# Altium integrated library Altium Database Library V2.IntLib: 722 symbols (part 21 of 35)
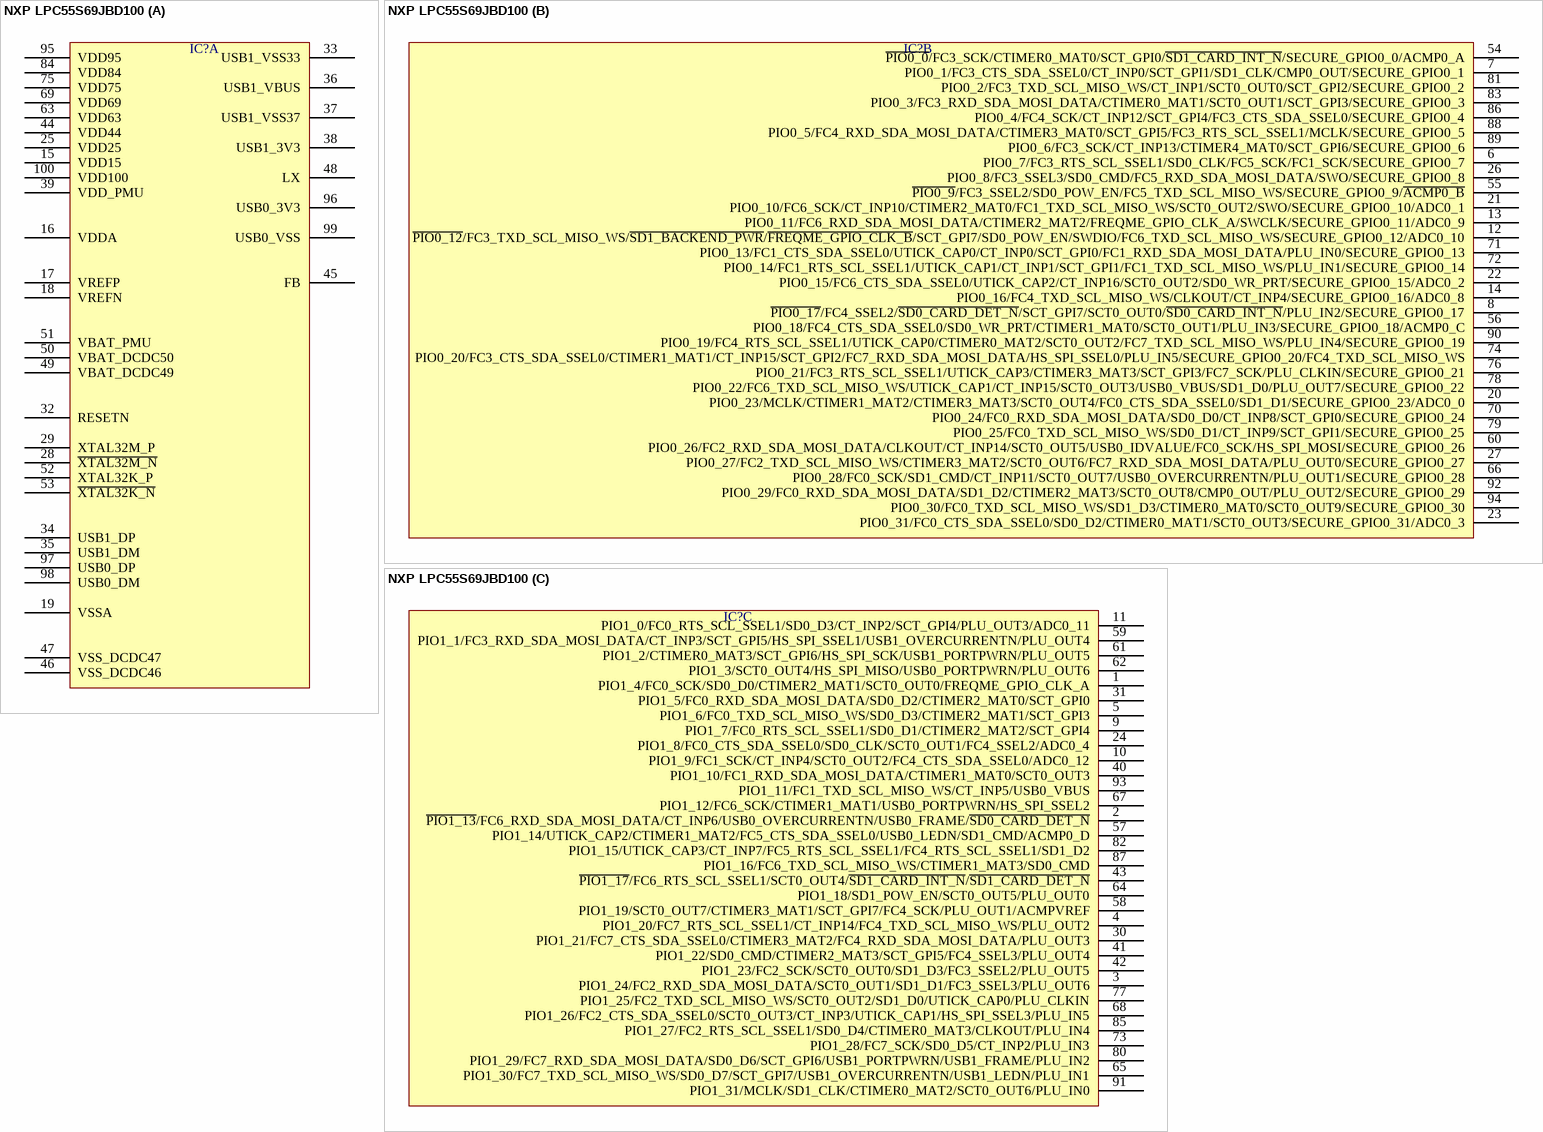
[diagram p735: symbol NXP LPC55S69JBD100]

## NXP LPC55S69JBD100
designator IC?  (value not drawn)
part A pins: 15 VDD15, 16 VDDA, 17 VREFP, 18 VREFN, 19 VSSA, 25 VDD25, 28 ~{XTAL32M_N}, 29 XTAL32M_P, 32 RESETN, 33 USB1_VSS33, 34 USB1_DP, 35 USB1_DM, 36 USB1_VBUS, 37 USB1_VSS37, 38 USB1_3V3, 39 VDD_PMU, 44 VDD44, 45 FB, 46 VSS_DCDC46, 47 VSS_DCDC47, 48 LX, 49 VBAT_DCDC49, 50 VBAT_DCDC50, 51 VBAT_PMU, 52 XTAL32K_P, 53 ~{XTAL32K_N}, 63 VDD63, 69 VDD69, 75 VDD75, 84 VDD84, 95 VDD95, 96 USB0_3V3, 97 USB0_DP, 98 USB0_DM, 99 USB0_VSS, 100 VDD100
part B pins: 6 PIO0_7/FC3_RTS_SCL_SSEL1/SD0_CLK/FC5_SCK/FC1_SCK/SECURE_GPIO0_7, 7 PIO0_1/FC3_CTS_SDA_SSEL0/CT_INP0/SCT_GPI1/SD1_CLK/CMP0_OUT/SECURE_GPIO0_1, 8 ~{PIO0_17}/FC4_SSEL2/~{SD0_CARD_DET_N}/SCT_GPI7/SCT0_OUT0/~{SD0_CARD_INT_N}/PLU_IN2/SECURE_GPIO0_17, 12 ~{PIO0_12}/FC3_TXD_SCL_MISO_WS/~{SD1_BACKEND_PWR}/~{FREQME_GPIO_CLK_B}/SCT_GPI7/SD0_POW_EN/SWDIO/FC6_TXD_SCL_MISO_WS/SECURE_GPIO0_12/ADC0_10, 13 PIO0_11/FC6_RXD_SDA_MOSI_DATA/CTIMER2_MAT2/FREQME_GPIO_CLK_A/SWCLK/SECURE_GPIO0_11/ADC0_9, 14 PIO0_16/FC4_TXD_SCL_MISO_WS/CLKOUT/CT_INP4/SECURE_GPIO0_16/ADC0_8, 20 PIO0_23/MCLK/CTIMER1_MAT2/CTIMER3_MAT3/SCT0_OUT4/FC0_CTS_SDA_SSEL0/SD1_D1/SECURE_GPIO0_23/ADC0_0, 21 PIO0_10/FC6_SCK/CT_INP10/CTIMER2_MAT0/FC1_TXD_SCL_MISO_WS/SCT0_OUT2/SWO/SECURE_GPIO0_10/ADC0_1, 22 PIO0_15/FC6_CTS_SDA_SSEL0/UTICK_CAP2/CT_INP16/SCT0_OUT2/SD0_WR_PRT/SECURE_GPIO0_15/ADC0_2, 23 PIO0_31/FC0_CTS_SDA_SSEL0/SD0_D2/CTIMER0_MAT1/SCT0_OUT3/SECURE_GPIO0_31/ADC0_3, 26 PIO0_8/FC3_SSEL3/SD0_CMD/FC5_RXD_SDA_MOSI_DATA/SWO/SECURE_GPIO0_8, 27 PIO0_27/FC2_TXD_SCL_MISO_WS/CTIMER3_MAT2/SCT0_OUT6/FC7_RXD_SDA_MOSI_DATA/PLU_OUT0/SECURE_GPIO0_27, 54 ~{PIO0_0}/FC3_SCK/CTIMER0_MAT0/SCT_GPI0/~{SD1_CARD_INT_N}/SECURE_GPIO0_0/ACMP0_A, 55 ~{PIO0_9}/FC3_SSEL2/SD0_POW_EN/FC5_TXD_SCL_MISO_WS/SECURE_GPIO0_9/~{ACMP0_B}, 56 PIO0_18/FC4_CTS_SDA_SSEL0/SD0_WR_PRT/CTIMER1_MAT0/SCT0_OUT1/PLU_IN3/SECURE_GPIO0_18/ACMP0_C, 60 PIO0_26/FC2_RXD_SDA_MOSI_DATA/CLKOUT/CT_INP14/SCT0_OUT5/USB0_IDVALUE/FC0_SCK/HS_SPI_MOSI/SECURE_GPIO0_26, 66 PIO0_28/FC0_SCK/SD1_CMD/CT_INP11/SCT0_OUT7/USB0_OVERCURRENTN/PLU_OUT1/SECURE_GPIO0_28, 70 PIO0_24/FC0_RXD_SDA_MOSI_DATA/SD0_D0/CT_INP8/SCT_GPI0/SECURE_GPIO0_24, 71 PIO0_13/FC1_CTS_SDA_SSEL0/UTICK_CAP0/CT_INP0/SCT_GPI0/FC1_RXD_SDA_MOSI_DATA/PLU_IN0/SECURE_GPIO0_13, 72 PIO0_14/FC1_RTS_SCL_SSEL1/UTICK_CAP1/CT_INP1/SCT_GPI1/FC1_TXD_SCL_MISO_WS/PLU_IN1/SECURE_GPIO0_14, 74 PIO0_20/FC3_CTS_SDA_SSEL0/CTIMER1_MAT1/CT_INP15/SCT_GPI2/FC7_RXD_SDA_MOSI_DATA/HS_SPI_SSEL0/PLU_IN5/SECURE_GPIO0_20/FC4_TXD_SCL_MISO_WS, 76 PIO0_21/FC3_RTS_SCL_SSEL1/UTICK_CAP3/CTIMER3_MAT3/SCT_GPI3/FC7_SCK/PLU_CLKIN/SECURE_GPIO0_21, 78 PIO0_22/FC6_TXD_SCL_MISO_WS/UTICK_CAP1/CT_INP15/SCT0_OUT3/USB0_VBUS/SD1_D0/PLU_OUT7/SECURE_GPIO0_22, 79 PIO0_25/FC0_TXD_SCL_MISO_WS/SD0_D1/CT_INP9/SCT_GPI1/SECURE_GPIO0_25, 81 PIO0_2/FC3_TXD_SCL_MISO_WS/CT_INP1/SCT0_OUT0/SCT_GPI2/SECURE_GPIO0_2, 83 PIO0_3/FC3_RXD_SDA_MOSI_DATA/CTIMER0_MAT1/SCT0_OUT1/SCT_GPI3/SECURE_GPIO0_3, 86 PIO0_4/FC4_SCK/CT_INP12/SCT_GPI4/FC3_CTS_SDA_SSEL0/SECURE_GPIO0_4, 88 PIO0_5/FC4_RXD_SDA_MOSI_DATA/CTIMER3_MAT0/SCT_GPI5/FC3_RTS_SCL_SSEL1/MCLK/SECURE_GPIO0_5, 89 PIO0_6/FC3_SCK/CT_INP13/CTIMER4_MAT0/SCT_GPI6/SECURE_GPIO0_6, 90 PIO0_19/FC4_RTS_SCL_SSEL1/UTICK_CAP0/CTIMER0_MAT2/SCT0_OUT2/FC7_TXD_SCL_MISO_WS/PLU_IN4/SECURE_GPIO0_19, 92 PIO0_29/FC0_RXD_SDA_MOSI_DATA/SD1_D2/CTIMER2_MAT3/SCT0_OUT8/CMP0_OUT/PLU_OUT2/SECURE_GPIO0_29, 94 PIO0_30/FC0_TXD_SCL_MISO_WS/SD1_D3/CTIMER0_MAT0/SCT0_OUT9/SECURE_GPIO0_30
part C pins: 1 PIO1_4/FC0_SCK/SD0_D0/CTIMER2_MAT1/SCT0_OUT0/FREQME_GPIO_CLK_A, 2 ~{PIO1_13}/FC6_RXD_SDA_MOSI_DATA/CT_INP6/USB0_OVERCURRENTN/USB0_FRAME/~{SD0_CARD_DET_N}, 3 PIO1_24/FC2_RXD_SDA_MOSI_DATA/SCT0_OUT1/SD1_D1/FC3_SSEL3/PLU_OUT6, 4 PIO1_20/FC7_RTS_SCL_SSEL1/CT_INP14/FC4_TXD_SCL_MISO_WS/PLU_OUT2, 5 PIO1_6/FC0_TXD_SCL_MISO_WS/SD0_D3/CTIMER2_MAT1/SCT_GPI3, 9 PIO1_7/FC0_RTS_SCL_SSEL1/SD0_D1/CTIMER2_MAT2/SCT_GPI4, 10 PIO1_9/FC1_SCK/CT_INP4/SCT0_OUT2/FC4_CTS_SDA_SSEL0/ADC0_12, 11 PIO1_0/FC0_RTS_SCL_SSEL1/SD0_D3/CT_INP2/SCT_GPI4/PLU_OUT3/ADC0_11, 24 PIO1_8/FC0_CTS_SDA_SSEL0/SD0_CLK/SCT0_OUT1/FC4_SSEL2/ADC0_4, 30 PIO1_21/FC7_CTS_SDA_SSEL0/CTIMER3_MAT2/FC4_RXD_SDA_MOSI_DATA/PLU_OUT3, 31 PIO1_5/FC0_RXD_SDA_MOSI_DATA/SD0_D2/CTIMER2_MAT0/SCT_GPI0, 40 PIO1_10/FC1_RXD_SDA_MOSI_DATA/CTIMER1_MAT0/SCT0_OUT3, 41 PIO1_22/SD0_CMD/CTIMER2_MAT3/SCT_GPI5/FC4_SSEL3/PLU_OUT4, 42 PIO1_23/FC2_SCK/SCT0_OUT0/SD1_D3/FC3_SSEL2/PLU_OUT5, 43 ~{PIO1_17}/FC6_RTS_SCL_SSEL1/SCT0_OUT4/~{SD1_CARD_INT_N}/~{SD1_CARD_DET_N}, 57 PIO1_14/UTICK_CAP2/CTIMER1_MAT2/FC5_CTS_SDA_SSEL0/USB0_LEDN/SD1_CMD/ACMP0_D, 58 PIO1_19/SCT0_OUT7/CTIMER3_MAT1/SCT_GPI7/FC4_SCK/PLU_OUT1/ACMPVREF, 59 PIO1_1/FC3_RXD_SDA_MOSI_DATA/CT_INP3/SCT_GPI5/HS_SPI_SSEL1/USB1_OVERCURRENTN/PLU_OUT4, 61 PIO1_2/CTIMER0_MAT3/SCT_GPI6/HS_SPI_SCK/USB1_PORTPWRN/PLU_OUT5, 62 PIO1_3/SCT0_OUT4/HS_SPI_MISO/USB0_PORTPWRN/PLU_OUT6, 64 PIO1_18/SD1_POW_EN/SCT0_OUT5/PLU_OUT0, 65 PIO1_30/FC7_TXD_SCL_MISO_WS/SD0_D7/SCT_GPI7/USB1_OVERCURRENTN/USB1_LEDN/PLU_IN1, 67 PIO1_12/FC6_SCK/CTIMER1_MAT1/USB0_PORTPWRN/HS_SPI_SSEL2, 68 PIO1_26/FC2_CTS_SDA_SSEL0/SCT0_OUT3/CT_INP3/UTICK_CAP1/HS_SPI_SSEL3/PLU_IN5, 73 PIO1_28/FC7_SCK/SD0_D5/CT_INP2/PLU_IN3, 77 PIO1_25/FC2_TXD_SCL_MISO_WS/SCT0_OUT2/SD1_D0/UTICK_CAP0/PLU_CLKIN, 80 PIO1_29/FC7_RXD_SDA_MOSI_DATA/SD0_D6/SCT_GPI6/USB1_PORTPWRN/USB1_FRAME/PLU_IN2, 82 PIO1_15/UTICK_CAP3/CT_INP7/FC5_RTS_SCL_SSEL1/FC4_RTS_SCL_SSEL1/SD1_D2, 85 PIO1_27/FC2_RTS_SCL_SSEL1/SD0_D4/CTIMER0_MAT3/CLKOUT/PLU_IN4, 87 PIO1_16/FC6_TXD_SCL_MISO_WS/CTIMER1_MAT3/SD0_CMD, 91 PIO1_31/MCLK/SD1_CLK/CTIMER0_MAT2/SCT0_OUT6/PLU_IN0, 93 PIO1_11/FC1_TXD_SCL_MISO_WS/CT_INP5/USB0_VBUS


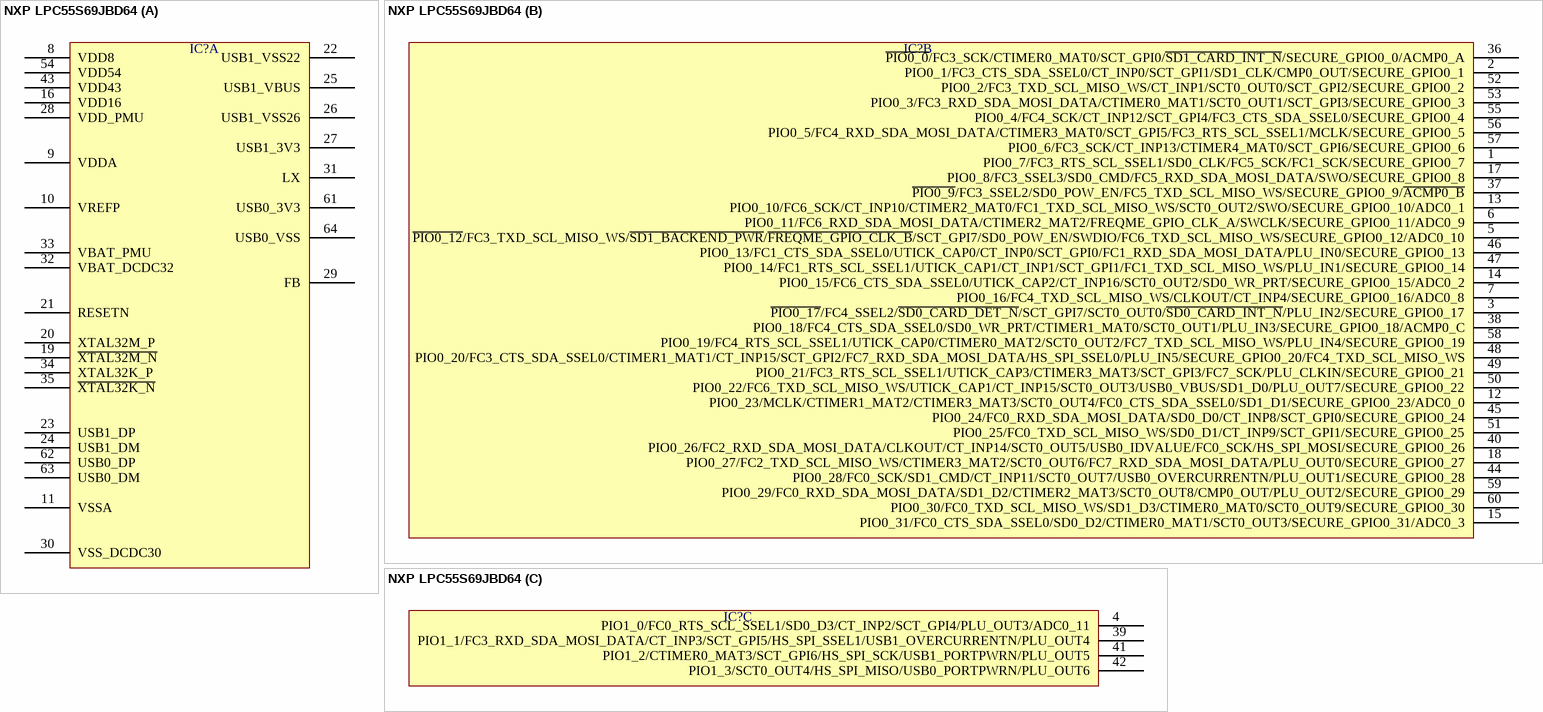
[diagram p388: symbol NXP LPC55S69JBD64]

## NXP LPC55S69JBD64
designator IC?  (value not drawn)
part A pins: 8 VDD8, 9 VDDA, 10 VREFP, 11 VSSA, 16 VDD16, 19 ~{XTAL32M_N}, 20 XTAL32M_P, 21 RESETN, 22 USB1_VSS22, 23 USB1_DP, 24 USB1_DM, 25 USB1_VBUS, 26 USB1_VSS26, 27 USB1_3V3, 28 VDD_PMU, 29 FB, 30 VSS_DCDC30, 31 LX, 32 VBAT_DCDC32, 33 VBAT_PMU, 34 XTAL32K_P, 35 ~{XTAL32K_N}, 43 VDD43, 54 VDD54, 61 USB0_3V3, 62 USB0_DP, 63 USB0_DM, 64 USB0_VSS
part B pins: 1 PIO0_7/FC3_RTS_SCL_SSEL1/SD0_CLK/FC5_SCK/FC1_SCK/SECURE_GPIO0_7, 2 PIO0_1/FC3_CTS_SDA_SSEL0/CT_INP0/SCT_GPI1/SD1_CLK/CMP0_OUT/SECURE_GPIO0_1, 3 ~{PIO0_17}/FC4_SSEL2/~{SD0_CARD_DET_N}/SCT_GPI7/SCT0_OUT0/~{SD0_CARD_INT_N}/PLU_IN2/SECURE_GPIO0_17, 5 ~{PIO0_12}/FC3_TXD_SCL_MISO_WS/~{SD1_BACKEND_PWR}/~{FREQME_GPIO_CLK_B}/SCT_GPI7/SD0_POW_EN/SWDIO/FC6_TXD_SCL_MISO_WS/SECURE_GPIO0_12/ADC0_10, 6 PIO0_11/FC6_RXD_SDA_MOSI_DATA/CTIMER2_MAT2/FREQME_GPIO_CLK_A/SWCLK/SECURE_GPIO0_11/ADC0_9, 7 PIO0_16/FC4_TXD_SCL_MISO_WS/CLKOUT/CT_INP4/SECURE_GPIO0_16/ADC0_8, 12 PIO0_23/MCLK/CTIMER1_MAT2/CTIMER3_MAT3/SCT0_OUT4/FC0_CTS_SDA_SSEL0/SD1_D1/SECURE_GPIO0_23/ADC0_0, 13 PIO0_10/FC6_SCK/CT_INP10/CTIMER2_MAT0/FC1_TXD_SCL_MISO_WS/SCT0_OUT2/SWO/SECURE_GPIO0_10/ADC0_1, 14 PIO0_15/FC6_CTS_SDA_SSEL0/UTICK_CAP2/CT_INP16/SCT0_OUT2/SD0_WR_PRT/SECURE_GPIO0_15/ADC0_2, 15 PIO0_31/FC0_CTS_SDA_SSEL0/SD0_D2/CTIMER0_MAT1/SCT0_OUT3/SECURE_GPIO0_31/ADC0_3, 17 PIO0_8/FC3_SSEL3/SD0_CMD/FC5_RXD_SDA_MOSI_DATA/SWO/SECURE_GPIO0_8, 18 PIO0_27/FC2_TXD_SCL_MISO_WS/CTIMER3_MAT2/SCT0_OUT6/FC7_RXD_SDA_MOSI_DATA/PLU_OUT0/SECURE_GPIO0_27, 36 ~{PIO0_0}/FC3_SCK/CTIMER0_MAT0/SCT_GPI0/~{SD1_CARD_INT_N}/SECURE_GPIO0_0/ACMP0_A, 37 ~{PIO0_9}/FC3_SSEL2/SD0_POW_EN/FC5_TXD_SCL_MISO_WS/SECURE_GPIO0_9/~{ACMP0_B}, 38 PIO0_18/FC4_CTS_SDA_SSEL0/SD0_WR_PRT/CTIMER1_MAT0/SCT0_OUT1/PLU_IN3/SECURE_GPIO0_18/ACMP0_C, 40 PIO0_26/FC2_RXD_SDA_MOSI_DATA/CLKOUT/CT_INP14/SCT0_OUT5/USB0_IDVALUE/FC0_SCK/HS_SPI_MOSI/SECURE_GPIO0_26, 44 PIO0_28/FC0_SCK/SD1_CMD/CT_INP11/SCT0_OUT7/USB0_OVERCURRENTN/PLU_OUT1/SECURE_GPIO0_28, 45 PIO0_24/FC0_RXD_SDA_MOSI_DATA/SD0_D0/CT_INP8/SCT_GPI0/SECURE_GPIO0_24, 46 PIO0_13/FC1_CTS_SDA_SSEL0/UTICK_CAP0/CT_INP0/SCT_GPI0/FC1_RXD_SDA_MOSI_DATA/PLU_IN0/SECURE_GPIO0_13, 47 PIO0_14/FC1_RTS_SCL_SSEL1/UTICK_CAP1/CT_INP1/SCT_GPI1/FC1_TXD_SCL_MISO_WS/PLU_IN1/SECURE_GPIO0_14, 48 PIO0_20/FC3_CTS_SDA_SSEL0/CTIMER1_MAT1/CT_INP15/SCT_GPI2/FC7_RXD_SDA_MOSI_DATA/HS_SPI_SSEL0/PLU_IN5/SECURE_GPIO0_20/FC4_TXD_SCL_MISO_WS, 49 PIO0_21/FC3_RTS_SCL_SSEL1/UTICK_CAP3/CTIMER3_MAT3/SCT_GPI3/FC7_SCK/PLU_CLKIN/SECURE_GPIO0_21, 50 PIO0_22/FC6_TXD_SCL_MISO_WS/UTICK_CAP1/CT_INP15/SCT0_OUT3/USB0_VBUS/SD1_D0/PLU_OUT7/SECURE_GPIO0_22, 51 PIO0_25/FC0_TXD_SCL_MISO_WS/SD0_D1/CT_INP9/SCT_GPI1/SECURE_GPIO0_25, 52 PIO0_2/FC3_TXD_SCL_MISO_WS/CT_INP1/SCT0_OUT0/SCT_GPI2/SECURE_GPIO0_2, 53 PIO0_3/FC3_RXD_SDA_MOSI_DATA/CTIMER0_MAT1/SCT0_OUT1/SCT_GPI3/SECURE_GPIO0_3, 55 PIO0_4/FC4_SCK/CT_INP12/SCT_GPI4/FC3_CTS_SDA_SSEL0/SECURE_GPIO0_4, 56 PIO0_5/FC4_RXD_SDA_MOSI_DATA/CTIMER3_MAT0/SCT_GPI5/FC3_RTS_SCL_SSEL1/MCLK/SECURE_GPIO0_5, 57 PIO0_6/FC3_SCK/CT_INP13/CTIMER4_MAT0/SCT_GPI6/SECURE_GPIO0_6, 58 PIO0_19/FC4_RTS_SCL_SSEL1/UTICK_CAP0/CTIMER0_MAT2/SCT0_OUT2/FC7_TXD_SCL_MISO_WS/PLU_IN4/SECURE_GPIO0_19, 59 PIO0_29/FC0_RXD_SDA_MOSI_DATA/SD1_D2/CTIMER2_MAT3/SCT0_OUT8/CMP0_OUT/PLU_OUT2/SECURE_GPIO0_29, 60 PIO0_30/FC0_TXD_SCL_MISO_WS/SD1_D3/CTIMER0_MAT0/SCT0_OUT9/SECURE_GPIO0_30
part C pins: 4 PIO1_0/FC0_RTS_SCL_SSEL1/SD0_D3/CT_INP2/SCT_GPI4/PLU_OUT3/ADC0_11, 39 PIO1_1/FC3_RXD_SDA_MOSI_DATA/CT_INP3/SCT_GPI5/HS_SPI_SSEL1/USB1_OVERCURRENTN/PLU_OUT4, 41 PIO1_2/CTIMER0_MAT3/SCT_GPI6/HS_SPI_SCK/USB1_PORTPWRN/PLU_OUT5, 42 PIO1_3/SCT0_OUT4/HS_SPI_MISO/USB0_PORTPWRN/PLU_OUT6


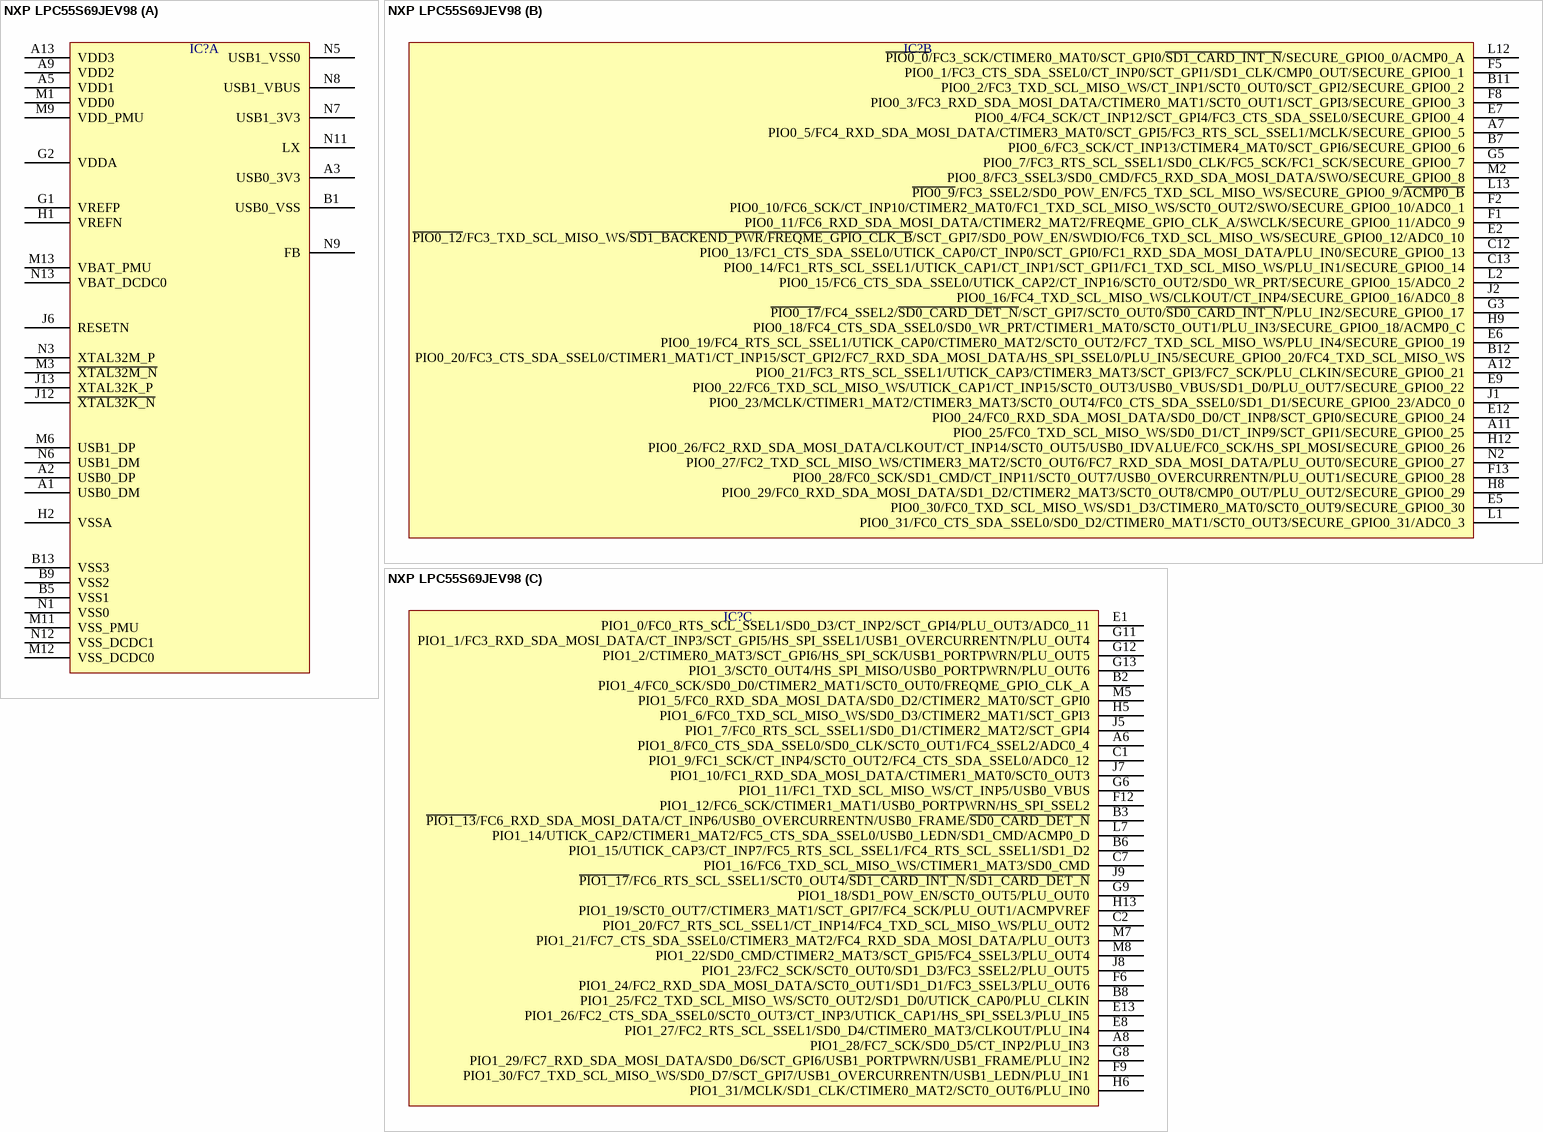
[diagram p389: symbol NXP LPC55S69JEV98]

## NXP LPC55S69JEV98
designator IC?  (value not drawn)
part A pins: A1 USB0_DM, A2 USB0_DP, A3 USB0_3V3, A5 VDD1, A9 VDD2, A13 VDD3, B1 USB0_VSS, B5 VSS1, B9 VSS2, B13 VSS3, G1 VREFP, G2 VDDA, H1 VREFN, H2 VSSA, J6 RESETN, J12 ~{XTAL32K_N}, J13 XTAL32K_P, M1 VDD0, M3 ~{XTAL32M_N}, M6 USB1_DP, M9 VDD_PMU, M11 VSS_PMU, M12 VSS_DCDC0, M13 VBAT_PMU, N1 VSS0, N3 XTAL32M_P, N5 USB1_VSS0, N6 USB1_DM, N7 USB1_3V3, N8 USB1_VBUS, N9 FB, N11 LX, N12 VSS_DCDC1, N13 VBAT_DCDC0
part B pins: A7 PIO0_5/FC4_RXD_SDA_MOSI_DATA/CTIMER3_MAT0/SCT_GPI5/FC3_RTS_SCL_SSEL1/MCLK/SECURE_GPIO0_5, A11 PIO0_25/FC0_TXD_SCL_MISO_WS/SD0_D1/CT_INP9/SCT_GPI1/SECURE_GPIO0_25, A12 PIO0_21/FC3_RTS_SCL_SSEL1/UTICK_CAP3/CTIMER3_MAT3/SCT_GPI3/FC7_SCK/PLU_CLKIN/SECURE_GPIO0_21, B7 PIO0_6/FC3_SCK/CT_INP13/CTIMER4_MAT0/SCT_GPI6/SECURE_GPIO0_6, B11 PIO0_2/FC3_TXD_SCL_MISO_WS/CT_INP1/SCT0_OUT0/SCT_GPI2/SECURE_GPIO0_2, B12 PIO0_20/FC3_CTS_SDA_SSEL0/CTIMER1_MAT1/CT_INP15/SCT_GPI2/FC7_RXD_SDA_MOSI_DATA/HS_SPI_SSEL0/PLU_IN5/SECURE_GPIO0_20/FC4_TXD_SCL_MISO_WS, C12 PIO0_13/FC1_CTS_SDA_SSEL0/UTICK_CAP0/CT_INP0/SCT_GPI0/FC1_RXD_SDA_MOSI_DATA/PLU_IN0/SECURE_GPIO0_13, C13 PIO0_14/FC1_RTS_SCL_SSEL1/UTICK_CAP1/CT_INP1/SCT_GPI1/FC1_TXD_SCL_MISO_WS/PLU_IN1/SECURE_GPIO0_14, E2 ~{PIO0_12}/FC3_TXD_SCL_MISO_WS/~{SD1_BACKEND_PWR}/~{FREQME_GPIO_CLK_B}/SCT_GPI7/SD0_POW_EN/SWDIO/FC6_TXD_SCL_MISO_WS/SECURE_GPIO0_12/ADC0_10, E5 PIO0_30/FC0_TXD_SCL_MISO_WS/SD1_D3/CTIMER0_MAT0/SCT0_OUT9/SECURE_GPIO0_30, E6 PIO0_19/FC4_RTS_SCL_SSEL1/UTICK_CAP0/CTIMER0_MAT2/SCT0_OUT2/FC7_TXD_SCL_MISO_WS/PLU_IN4/SECURE_GPIO0_19, E7 PIO0_4/FC4_SCK/CT_INP12/SCT_GPI4/FC3_CTS_SDA_SSEL0/SECURE_GPIO0_4, E9 PIO0_22/FC6_TXD_SCL_MISO_WS/UTICK_CAP1/CT_INP15/SCT0_OUT3/USB0_VBUS/SD1_D0/PLU_OUT7/SECURE_GPIO0_22, E12 PIO0_24/FC0_RXD_SDA_MOSI_DATA/SD0_D0/CT_INP8/SCT_GPI0/SECURE_GPIO0_24, F1 PIO0_11/FC6_RXD_SDA_MOSI_DATA/CTIMER2_MAT2/FREQME_GPIO_CLK_A/SWCLK/SECURE_GPIO0_11/ADC0_9, F2 PIO0_10/FC6_SCK/CT_INP10/CTIMER2_MAT0/FC1_TXD_SCL_MISO_WS/SCT0_OUT2/SWO/SECURE_GPIO0_10/ADC0_1, F5 PIO0_1/FC3_CTS_SDA_SSEL0/CT_INP0/SCT_GPI1/SD1_CLK/CMP0_OUT/SECURE_GPIO0_1, F8 PIO0_3/FC3_RXD_SDA_MOSI_DATA/CTIMER0_MAT1/SCT0_OUT1/SCT_GPI3/SECURE_GPIO0_3, F13 PIO0_28/FC0_SCK/SD1_CMD/CT_INP11/SCT0_OUT7/USB0_OVERCURRENTN/PLU_OUT1/SECURE_GPIO0_28, G3 ~{PIO0_17}/FC4_SSEL2/~{SD0_CARD_DET_N}/SCT_GPI7/SCT0_OUT0/~{SD0_CARD_INT_N}/PLU_IN2/SECURE_GPIO0_17, G5 PIO0_7/FC3_RTS_SCL_SSEL1/SD0_CLK/FC5_SCK/FC1_SCK/SECURE_GPIO0_7, H8 PIO0_29/FC0_RXD_SDA_MOSI_DATA/SD1_D2/CTIMER2_MAT3/SCT0_OUT8/CMP0_OUT/PLU_OUT2/SECURE_GPIO0_29, H9 PIO0_18/FC4_CTS_SDA_SSEL0/SD0_WR_PRT/CTIMER1_MAT0/SCT0_OUT1/PLU_IN3/SECURE_GPIO0_18/ACMP0_C, H12 PIO0_26/FC2_RXD_SDA_MOSI_DATA/CLKOUT/CT_INP14/SCT0_OUT5/USB0_IDVALUE/FC0_SCK/HS_SPI_MOSI/SECURE_GPIO0_26, J1 PIO0_23/MCLK/CTIMER1_MAT2/CTIMER3_MAT3/SCT0_OUT4/FC0_CTS_SDA_SSEL0/SD1_D1/SECURE_GPIO0_23/ADC0_0, J2 PIO0_16/FC4_TXD_SCL_MISO_WS/CLKOUT/CT_INP4/SECURE_GPIO0_16/ADC0_8, L1 PIO0_31/FC0_CTS_SDA_SSEL0/SD0_D2/CTIMER0_MAT1/SCT0_OUT3/SECURE_GPIO0_31/ADC0_3, L2 PIO0_15/FC6_CTS_SDA_SSEL0/UTICK_CAP2/CT_INP16/SCT0_OUT2/SD0_WR_PRT/SECURE_GPIO0_15/ADC0_2, L12 ~{PIO0_0}/FC3_SCK/CTIMER0_MAT0/SCT_GPI0/~{SD1_CARD_INT_N}/SECURE_GPIO0_0/ACMP0_A, L13 ~{PIO0_9}/FC3_SSEL2/SD0_POW_EN/FC5_TXD_SCL_MISO_WS/SECURE_GPIO0_9/~{ACMP0_B}, M2 PIO0_8/FC3_SSEL3/SD0_CMD/FC5_RXD_SDA_MOSI_DATA/SWO/SECURE_GPIO0_8, N2 PIO0_27/FC2_TXD_SCL_MISO_WS/CTIMER3_MAT2/SCT0_OUT6/FC7_RXD_SDA_MOSI_DATA/PLU_OUT0/SECURE_GPIO0_27
part C pins: A6 PIO1_8/FC0_CTS_SDA_SSEL0/SD0_CLK/SCT0_OUT1/FC4_SSEL2/ADC0_4, A8 PIO1_28/FC7_SCK/SD0_D5/CT_INP2/PLU_IN3, B2 PIO1_4/FC0_SCK/SD0_D0/CTIMER2_MAT1/SCT0_OUT0/FREQME_GPIO_CLK_A, B3 ~{PIO1_13}/FC6_RXD_SDA_MOSI_DATA/CT_INP6/USB0_OVERCURRENTN/USB0_FRAME/~{SD0_CARD_DET_N}, B6 PIO1_15/UTICK_CAP3/CT_INP7/FC5_RTS_SCL_SSEL1/FC4_RTS_SCL_SSEL1/SD1_D2, B8 PIO1_25/FC2_TXD_SCL_MISO_WS/SCT0_OUT2/SD1_D0/UTICK_CAP0/PLU_CLKIN, C1 PIO1_9/FC1_SCK/CT_INP4/SCT0_OUT2/FC4_CTS_SDA_SSEL0/ADC0_12, C2 PIO1_20/FC7_RTS_SCL_SSEL1/CT_INP14/FC4_TXD_SCL_MISO_WS/PLU_OUT2, C7 PIO1_16/FC6_TXD_SCL_MISO_WS/CTIMER1_MAT3/SD0_CMD, E1 PIO1_0/FC0_RTS_SCL_SSEL1/SD0_D3/CT_INP2/SCT_GPI4/PLU_OUT3/ADC0_11, E8 PIO1_27/FC2_RTS_SCL_SSEL1/SD0_D4/CTIMER0_MAT3/CLKOUT/PLU_IN4, E13 PIO1_26/FC2_CTS_SDA_SSEL0/SCT0_OUT3/CT_INP3/UTICK_CAP1/HS_SPI_SSEL3/PLU_IN5, F6 PIO1_24/FC2_RXD_SDA_MOSI_DATA/SCT0_OUT1/SD1_D1/FC3_SSEL3/PLU_OUT6, F9 PIO1_30/FC7_TXD_SCL_MISO_WS/SD0_D7/SCT_GPI7/USB1_OVERCURRENTN/USB1_LEDN/PLU_IN1, F12 PIO1_12/FC6_SCK/CTIMER1_MAT1/USB0_PORTPWRN/HS_SPI_SSEL2, G6 PIO1_11/FC1_TXD_SCL_MISO_WS/CT_INP5/USB0_VBUS, G8 PIO1_29/FC7_RXD_SDA_MOSI_DATA/SD0_D6/SCT_GPI6/USB1_PORTPWRN/USB1_FRAME/PLU_IN2, G9 PIO1_18/SD1_POW_EN/SCT0_OUT5/PLU_OUT0, G11 PIO1_1/FC3_RXD_SDA_MOSI_DATA/CT_INP3/SCT_GPI5/HS_SPI_SSEL1/USB1_OVERCURRENTN/PLU_OUT4, G12 PIO1_2/CTIMER0_MAT3/SCT_GPI6/HS_SPI_SCK/USB1_PORTPWRN/PLU_OUT5, G13 PIO1_3/SCT0_OUT4/HS_SPI_MISO/USB0_PORTPWRN/PLU_OUT6, H5 PIO1_6/FC0_TXD_SCL_MISO_WS/SD0_D3/CTIMER2_MAT1/SCT_GPI3, H6 PIO1_31/MCLK/SD1_CLK/CTIMER0_MAT2/SCT0_OUT6/PLU_IN0, H13 PIO1_19/SCT0_OUT7/CTIMER3_MAT1/SCT_GPI7/FC4_SCK/PLU_OUT1/ACMPVREF, J5 PIO1_7/FC0_RTS_SCL_SSEL1/SD0_D1/CTIMER2_MAT2/SCT_GPI4, J7 PIO1_10/FC1_RXD_SDA_MOSI_DATA/CTIMER1_MAT0/SCT0_OUT3, J8 PIO1_23/FC2_SCK/SCT0_OUT0/SD1_D3/FC3_SSEL2/PLU_OUT5, J9 ~{PIO1_17}/FC6_RTS_SCL_SSEL1/SCT0_OUT4/~{SD1_CARD_INT_N}/~{SD1_CARD_DET_N}, L7 PIO1_14/UTICK_CAP2/CTIMER1_MAT2/FC5_CTS_SDA_SSEL0/USB0_LEDN/SD1_CMD/ACMP0_D, M5 PIO1_5/FC0_RXD_SDA_MOSI_DATA/SD0_D2/CTIMER2_MAT0/SCT_GPI0, M7 PIO1_21/FC7_CTS_SDA_SSEL0/CTIMER3_MAT2/FC4_RXD_SDA_MOSI_DATA/PLU_OUT3, M8 PIO1_22/SD0_CMD/CTIMER2_MAT3/SCT_GPI5/FC4_SSEL3/PLU_OUT4


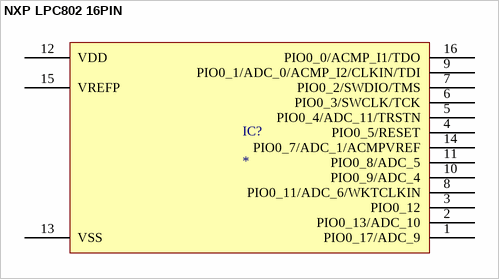
[diagram p390: symbol NXP LPC802 16PIN]

## NXP LPC802 16PIN
designator IC?
footprint NXP TSSOP-16 (TSSOP, 16-Leads, Body 5.00x4.40mm, Pitch 0.65mm, IPC Medium Density)
pins: 1 PIO0_17/ADC_9, 2 PIO0_13/ADC_10, 3 PIO0_12, 4 PIO0_5/RESET, 5 PIO0_4/ADC_11/TRSTN, 6 PIO0_3/SWCLK/TCK, 7 PIO0_2/SWDIO/TMS, 8 PIO0_11/ADC_6/WKTCLKIN, 9 PIO0_1/ADC_0/ACMP_I2/CLKIN/TDI, 10 PIO0_9/ADC_4, 11 PIO0_8/ADC_5, 12 VDD, 13 VSS, 14 PIO0_7/ADC_1/ACMPVREF, 15 VREFP, 16 PIO0_0/ACMP_I1/TDO


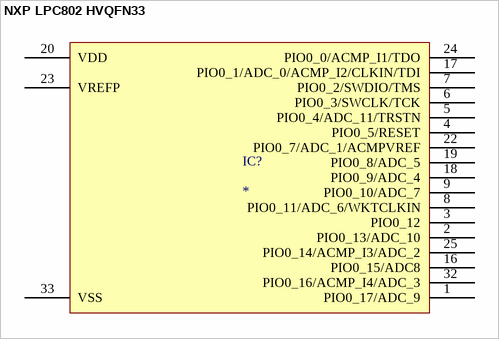
[diagram p391: symbol NXP LPC802 HVQFN33]

## NXP LPC802 HVQFN33
designator IC?
pins: 1 PIO0_17/ADC_9, 2 PIO0_13/ADC_10, 3 PIO0_12, 4 PIO0_5/RESET, 5 PIO0_4/ADC_11/TRSTN, 6 PIO0_3/SWCLK/TCK, 7 PIO0_2/SWDIO/TMS, 8 PIO0_11/ADC_6/WKTCLKIN, 9 PIO0_10/ADC_7, 16 PIO0_15/ADC8, 17 PIO0_1/ADC_0/ACMP_I2/CLKIN/TDI, 18 PIO0_9/ADC_4, 19 PIO0_8/ADC_5, 20 VDD, 22 PIO0_7/ADC_1/ACMPVREF, 23 VREFP, 24 PIO0_0/ACMP_I1/TDO, 25 PIO0_14/ACMP_I3/ADC_2, 32 PIO0_16/ACMP_I4/ADC_3, 33 VSS


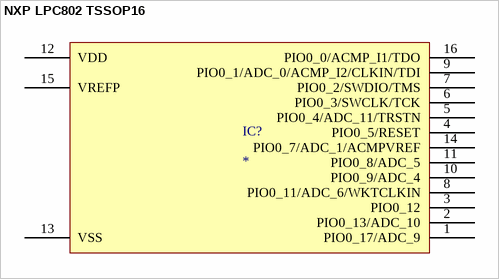
[diagram p392: symbol NXP LPC802 TSSOP16]

## NXP LPC802 TSSOP16
designator IC?
pins: 1 PIO0_17/ADC_9, 2 PIO0_13/ADC_10, 3 PIO0_12, 4 PIO0_5/RESET, 5 PIO0_4/ADC_11/TRSTN, 6 PIO0_3/SWCLK/TCK, 7 PIO0_2/SWDIO/TMS, 8 PIO0_11/ADC_6/WKTCLKIN, 9 PIO0_1/ADC_0/ACMP_I2/CLKIN/TDI, 10 PIO0_9/ADC_4, 11 PIO0_8/ADC_5, 12 VDD, 13 VSS, 14 PIO0_7/ADC_1/ACMPVREF, 15 VREFP, 16 PIO0_0/ACMP_I1/TDO


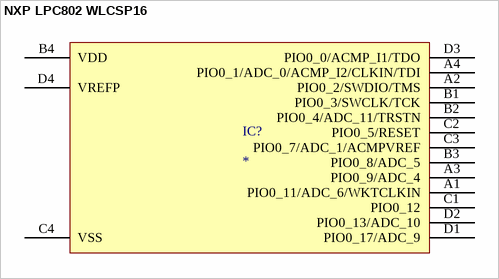
[diagram p393: symbol NXP LPC802 WLCSP16]

## NXP LPC802 WLCSP16
designator IC?
pins: A1 PIO0_11/ADC_6/WKTCLKIN, A2 PIO0_2/SWDIO/TMS, A3 PIO0_9/ADC_4, A4 PIO0_1/ADC_0/ACMP_I2/CLKIN/TDI, B1 PIO0_3/SWCLK/TCK, B2 PIO0_4/ADC_11/TRSTN, B3 PIO0_8/ADC_5, B4 VDD, C1 PIO0_12, C2 PIO0_5/RESET, C3 PIO0_7/ADC_1/ACMPVREF, C4 VSS, D1 PIO0_17/ADC_9, D2 PIO0_13/ADC_10, D3 PIO0_0/ACMP_I1/TDO, D4 VREFP


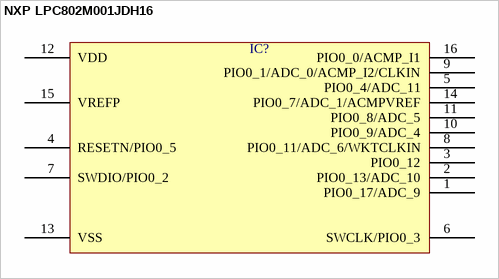
[diagram p394: symbol NXP LPC802M001JDH16]

## NXP LPC802M001JDH16
designator IC?  (value not drawn)
pins: 1 PIO0_17/ADC_9, 2 PIO0_13/ADC_10, 3 PIO0_12, 4 RESETN/PIO0_5, 5 PIO0_4/ADC_11, 6 SWCLK/PIO0_3, 7 SWDIO/PIO0_2, 8 PIO0_11/ADC_6/WKTCLKIN, 9 PIO0_1/ADC_0/ACMP_I2/CLKIN, 10 PIO0_9/ADC_4, 11 PIO0_8/ADC_5, 12 VDD, 13 VSS, 14 PIO0_7/ADC_1/ACMPVREF, 15 VREFP, 16 PIO0_0/ACMP_I1


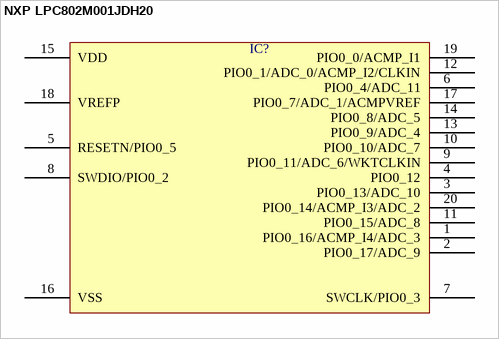
[diagram p395: symbol NXP LPC802M001JDH20]

## NXP LPC802M001JDH20
designator IC?  (value not drawn)
pins: 1 PIO0_16/ACMP_I4/ADC_3, 2 PIO0_17/ADC_9, 3 PIO0_13/ADC_10, 4 PIO0_12, 5 RESETN/PIO0_5, 6 PIO0_4/ADC_11, 7 SWCLK/PIO0_3, 8 SWDIO/PIO0_2, 9 PIO0_11/ADC_6/WKTCLKIN, 10 PIO0_10/ADC_7, 11 PIO0_15/ADC_8, 12 PIO0_1/ADC_0/ACMP_I2/CLKIN, 13 PIO0_9/ADC_4, 14 PIO0_8/ADC_5, 15 VDD, 16 VSS, 17 PIO0_7/ADC_1/ACMPVREF, 18 VREFP, 19 PIO0_0/ACMP_I1, 20 PIO0_14/ACMP_I3/ADC_2


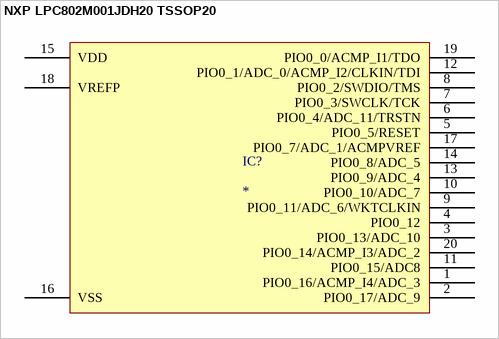
[diagram p396: symbol NXP LPC802M001JDH20 TSSOP20]

## NXP LPC802M001JDH20 TSSOP20
designator IC?
pins: 1 PIO0_16/ACMP_I4/ADC_3, 2 PIO0_17/ADC_9, 3 PIO0_13/ADC_10, 4 PIO0_12, 5 PIO0_5/RESET, 6 PIO0_4/ADC_11/TRSTN, 7 PIO0_3/SWCLK/TCK, 8 PIO0_2/SWDIO/TMS, 9 PIO0_11/ADC_6/WKTCLKIN, 10 PIO0_10/ADC_7, 11 PIO0_15/ADC8, 12 PIO0_1/ADC_0/ACMP_I2/CLKIN/TDI, 13 PIO0_9/ADC_4, 14 PIO0_8/ADC_5, 15 VDD, 16 VSS, 17 PIO0_7/ADC_1/ACMPVREF, 18 VREFP, 19 PIO0_0/ACMP_I1/TDO, 20 PIO0_14/ACMP_I3/ADC_2


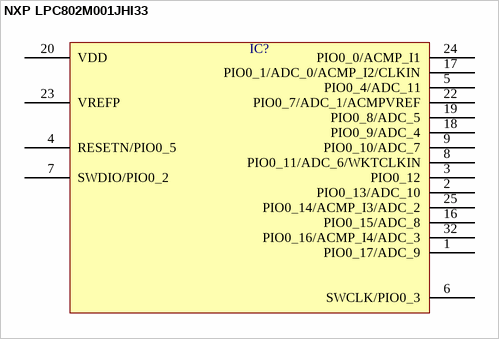
[diagram p397: symbol NXP LPC802M001JHI33]

## NXP LPC802M001JHI33
designator IC?  (value not drawn)
pins: 1 PIO0_17/ADC_9, 2 PIO0_13/ADC_10, 3 PIO0_12, 4 RESETN/PIO0_5, 5 PIO0_4/ADC_11, 6 SWCLK/PIO0_3, 7 SWDIO/PIO0_2, 8 PIO0_11/ADC_6/WKTCLKIN, 9 PIO0_10/ADC_7, 16 PIO0_15/ADC_8, 17 PIO0_1/ADC_0/ACMP_I2/CLKIN, 18 PIO0_9/ADC_4, 19 PIO0_8/ADC_5, 20 VDD, 22 PIO0_7/ADC_1/ACMPVREF, 23 VREFP, 24 PIO0_0/ACMP_I1, 25 PIO0_14/ACMP_I3/ADC_2, 32 PIO0_16/ACMP_I4/ADC_3


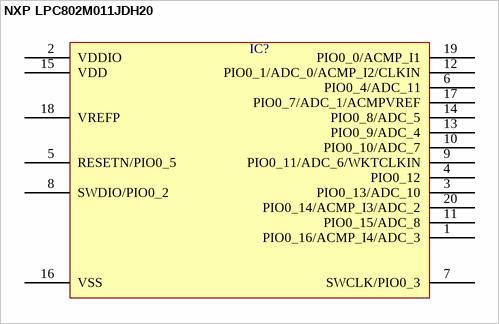
[diagram p398: symbol NXP LPC802M011JDH20]

## NXP LPC802M011JDH20
designator IC?  (value not drawn)
pins: 1 PIO0_16/ACMP_I4/ADC_3, 2 VDDIO, 3 PIO0_13/ADC_10, 4 PIO0_12, 5 RESETN/PIO0_5, 6 PIO0_4/ADC_11, 7 SWCLK/PIO0_3, 8 SWDIO/PIO0_2, 9 PIO0_11/ADC_6/WKTCLKIN, 10 PIO0_10/ADC_7, 11 PIO0_15/ADC_8, 12 PIO0_1/ADC_0/ACMP_I2/CLKIN, 13 PIO0_9/ADC_4, 14 PIO0_8/ADC_5, 15 VDD, 16 VSS, 17 PIO0_7/ADC_1/ACMPVREF, 18 VREFP, 19 PIO0_0/ACMP_I1, 20 PIO0_14/ACMP_I3/ADC_2


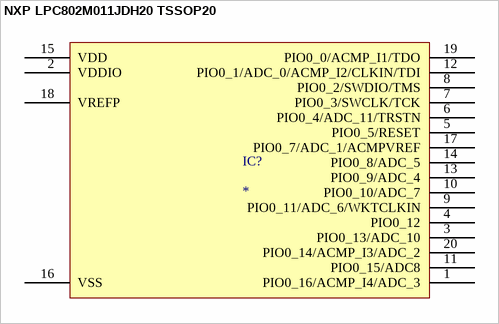
[diagram p399: symbol NXP LPC802M011JDH20 TSSOP20]

## NXP LPC802M011JDH20 TSSOP20
designator IC?
pins: 1 PIO0_16/ACMP_I4/ADC_3, 2 VDDIO, 3 PIO0_13/ADC_10, 4 PIO0_12, 5 PIO0_5/RESET, 6 PIO0_4/ADC_11/TRSTN, 7 PIO0_3/SWCLK/TCK, 8 PIO0_2/SWDIO/TMS, 9 PIO0_11/ADC_6/WKTCLKIN, 10 PIO0_10/ADC_7, 11 PIO0_15/ADC8, 12 PIO0_1/ADC_0/ACMP_I2/CLKIN/TDI, 13 PIO0_9/ADC_4, 14 PIO0_8/ADC_5, 15 VDD, 16 VSS, 17 PIO0_7/ADC_1/ACMPVREF, 18 VREFP, 19 PIO0_0/ACMP_I1/TDO, 20 PIO0_14/ACMP_I3/ADC_2


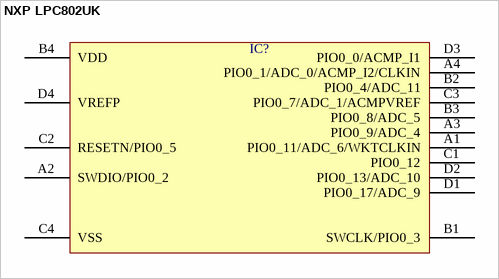
[diagram p400: symbol NXP LPC802UK]

## NXP LPC802UK
designator IC?  (value not drawn)
pins: A1 PIO0_11/ADC_6/WKTCLKIN, A2 SWDIO/PIO0_2, A3 PIO0_9/ADC_4, A4 PIO0_1/ADC_0/ACMP_I2/CLKIN, B1 SWCLK/PIO0_3, B2 PIO0_4/ADC_11, B3 PIO0_8/ADC_5, B4 VDD, C1 PIO0_12, C2 RESETN/PIO0_5, C3 PIO0_7/ADC_1/ACMPVREF, C4 VSS, D1 PIO0_17/ADC_9, D2 PIO0_13/ADC_10, D3 PIO0_0/ACMP_I1, D4 VREFP


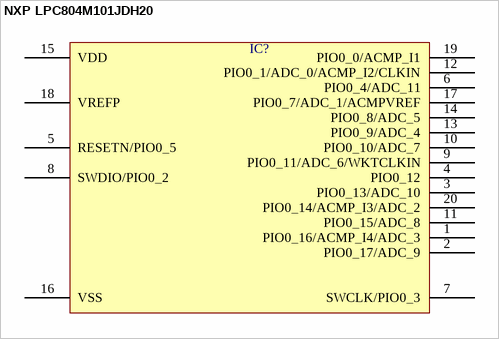
[diagram p401: symbol NXP LPC804M101JDH20]

## NXP LPC804M101JDH20
designator IC?  (value not drawn)
pins: 1 PIO0_16/ACMP_I4/ADC_3, 2 PIO0_17/ADC_9, 3 PIO0_13/ADC_10, 4 PIO0_12, 5 RESETN/PIO0_5, 6 PIO0_4/ADC_11, 7 SWCLK/PIO0_3, 8 SWDIO/PIO0_2, 9 PIO0_11/ADC_6/WKTCLKIN, 10 PIO0_10/ADC_7, 11 PIO0_15/ADC_8, 12 PIO0_1/ADC_0/ACMP_I2/CLKIN, 13 PIO0_9/ADC_4, 14 PIO0_8/ADC_5, 15 VDD, 16 VSS, 17 PIO0_7/ADC_1/ACMPVREF, 18 VREFP, 19 PIO0_0/ACMP_I1, 20 PIO0_14/ACMP_I3/ADC_2


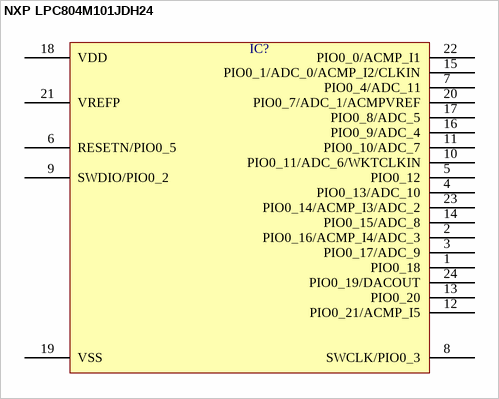
[diagram p402: symbol NXP LPC804M101JDH24]

## NXP LPC804M101JDH24
designator IC?  (value not drawn)
pins: 1 PIO0_18, 2 PIO0_16/ACMP_I4/ADC_3, 3 PIO0_17/ADC_9, 4 PIO0_13/ADC_10, 5 PIO0_12, 6 RESETN/PIO0_5, 7 PIO0_4/ADC_11, 8 SWCLK/PIO0_3, 9 SWDIO/PIO0_2, 10 PIO0_11/ADC_6/WKTCLKIN, 11 PIO0_10/ADC_7, 12 PIO0_21/ACMP_I5, 13 PIO0_20, 14 PIO0_15/ADC_8, 15 PIO0_1/ADC_0/ACMP_I2/CLKIN, 16 PIO0_9/ADC_4, 17 PIO0_8/ADC_5, 18 VDD, 19 VSS, 20 PIO0_7/ADC_1/ACMPVREF, 21 VREFP, 22 PIO0_0/ACMP_I1, 23 PIO0_14/ACMP_I3/ADC_2, 24 PIO0_19/DACOUT


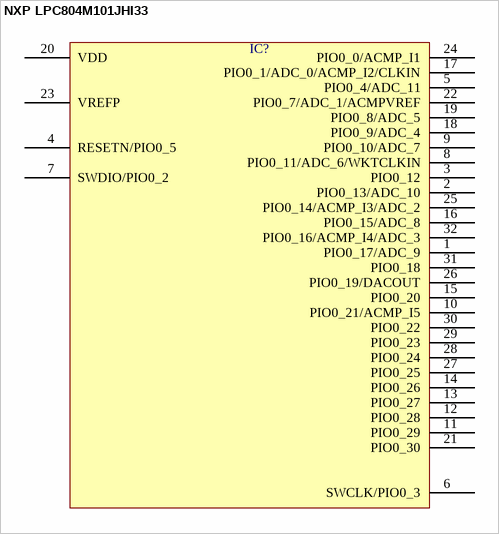
[diagram p403: symbol NXP LPC804M101JHI33]

## NXP LPC804M101JHI33
designator IC?  (value not drawn)
pins: 1 PIO0_17/ADC_9, 2 PIO0_13/ADC_10, 3 PIO0_12, 4 RESETN/PIO0_5, 5 PIO0_4/ADC_11, 6 SWCLK/PIO0_3, 7 SWDIO/PIO0_2, 8 PIO0_11/ADC_6/WKTCLKIN, 9 PIO0_10/ADC_7, 10 PIO0_21/ACMP_I5, 11 PIO0_29, 12 PIO0_28, 13 PIO0_27, 14 PIO0_26, 15 PIO0_20, 16 PIO0_15/ADC_8, 17 PIO0_1/ADC_0/ACMP_I2/CLKIN, 18 PIO0_9/ADC_4, 19 PIO0_8/ADC_5, 20 VDD, 21 PIO0_30, 22 PIO0_7/ADC_1/ACMPVREF, 23 VREFP, 24 PIO0_0/ACMP_I1, 25 PIO0_14/ACMP_I3/ADC_2, 26 PIO0_19/DACOUT, 27 PIO0_25, 28 PIO0_24, 29 PIO0_23, 30 PIO0_22, 31 PIO0_18, 32 PIO0_16/ACMP_I4/ADC_3


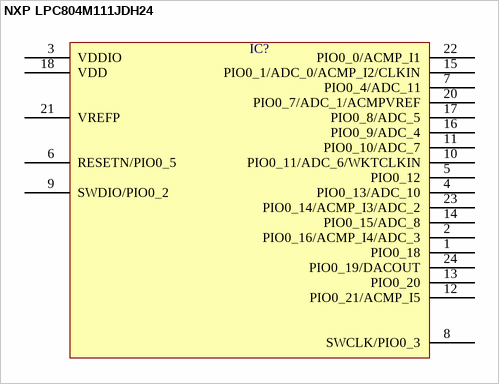
[diagram p404: symbol NXP LPC804M111JDH24]

## NXP LPC804M111JDH24
designator IC?  (value not drawn)
pins: 1 PIO0_18, 2 PIO0_16/ACMP_I4/ADC_3, 3 VDDIO, 4 PIO0_13/ADC_10, 5 PIO0_12, 6 RESETN/PIO0_5, 7 PIO0_4/ADC_11, 8 SWCLK/PIO0_3, 9 SWDIO/PIO0_2, 10 PIO0_11/ADC_6/WKTCLKIN, 11 PIO0_10/ADC_7, 12 PIO0_21/ACMP_I5, 13 PIO0_20, 14 PIO0_15/ADC_8, 15 PIO0_1/ADC_0/ACMP_I2/CLKIN, 16 PIO0_9/ADC_4, 17 PIO0_8/ADC_5, 18 VDD, 20 PIO0_7/ADC_1/ACMPVREF, 21 VREFP, 22 PIO0_0/ACMP_I1, 23 PIO0_14/ACMP_I3/ADC_2, 24 PIO0_19/DACOUT


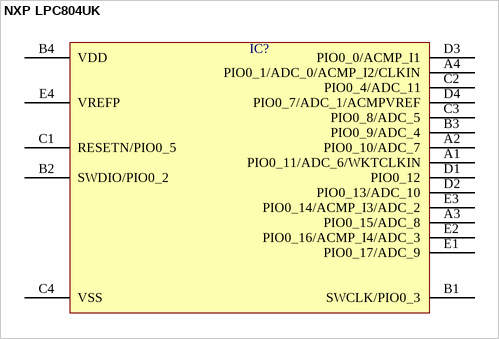
[diagram p405: symbol NXP LPC804UK]

## NXP LPC804UK
designator IC?  (value not drawn)
pins: A1 PIO0_11/ADC_6/WKTCLKIN, A2 PIO0_10/ADC_7, A3 PIO0_15/ADC_8, A4 PIO0_1/ADC_0/ACMP_I2/CLKIN, B1 SWCLK/PIO0_3, B2 SWDIO/PIO0_2, B3 PIO0_9/ADC_4, B4 VDD, C1 RESETN/PIO0_5, C2 PIO0_4/ADC_11, C3 PIO0_8/ADC_5, C4 VSS, D1 PIO0_12, D2 PIO0_13/ADC_10, D3 PIO0_0/ACMP_I1, D4 PIO0_7/ADC_1/ACMPVREF, E1 PIO0_17/ADC_9, E2 PIO0_16/ACMP_I4/ADC_3, E3 PIO0_14/ACMP_I3/ADC_2, E4 VREFP


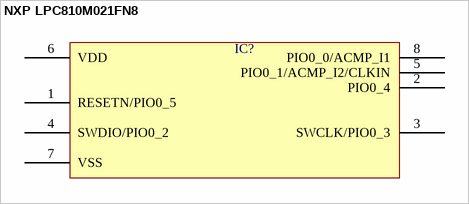
[diagram p406: symbol NXP LPC810M021FN8]

## NXP LPC810M021FN8
designator IC?  (value not drawn)
pins: 1 RESETN/PIO0_5, 2 PIO0_4, 3 SWCLK/PIO0_3, 4 SWDIO/PIO0_2, 5 PIO0_1/ACMP_I2/CLKIN, 6 VDD, 7 VSS, 8 PIO0_0/ACMP_I1


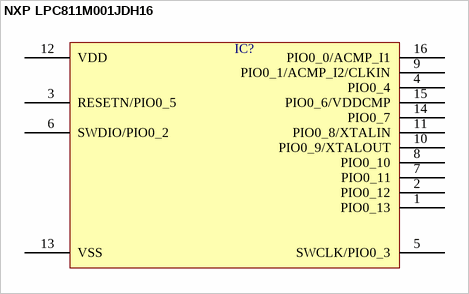
[diagram p407: symbol NXP LPC811M001JDH16]

## NXP LPC811M001JDH16
designator IC?  (value not drawn)
pins: 1 PIO0_13, 2 PIO0_12, 3 RESETN/PIO0_5, 4 PIO0_4, 5 SWCLK/PIO0_3, 6 SWDIO/PIO0_2, 7 PIO0_11, 8 PIO0_10, 9 PIO0_1/ACMP_I2/CLKIN, 10 PIO0_9/XTALOUT, 11 PIO0_8/XTALIN, 12 VDD, 13 VSS, 14 PIO0_7, 15 PIO0_6/VDDCMP, 16 PIO0_0/ACMP_I1


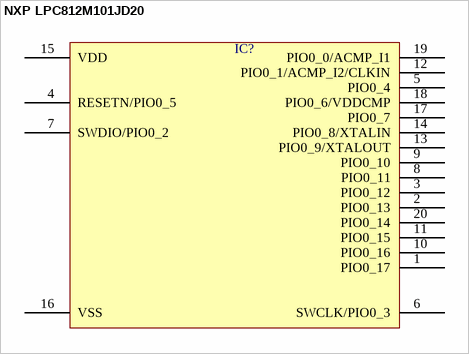
[diagram p408: symbol NXP LPC812M101JD20]

## NXP LPC812M101JD20
designator IC?  (value not drawn)
pins: 1 PIO0_17, 2 PIO0_13, 3 PIO0_12, 4 RESETN/PIO0_5, 5 PIO0_4, 6 SWCLK/PIO0_3, 7 SWDIO/PIO0_2, 8 PIO0_11, 9 PIO0_10, 10 PIO0_16, 11 PIO0_15, 12 PIO0_1/ACMP_I2/CLKIN, 13 PIO0_9/XTALOUT, 14 PIO0_8/XTALIN, 15 VDD, 16 VSS, 17 PIO0_7, 18 PIO0_6/VDDCMP, 19 PIO0_0/ACMP_I1, 20 PIO0_14


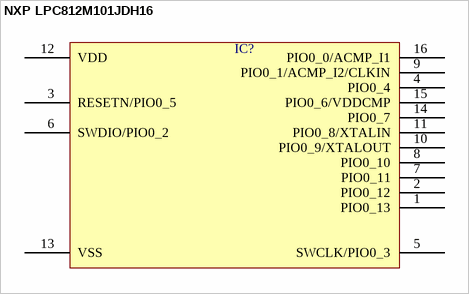
[diagram p409: symbol NXP LPC812M101JDH16]

## NXP LPC812M101JDH16
designator IC?  (value not drawn)
pins: 1 PIO0_13, 2 PIO0_12, 3 RESETN/PIO0_5, 4 PIO0_4, 5 SWCLK/PIO0_3, 6 SWDIO/PIO0_2, 7 PIO0_11, 8 PIO0_10, 9 PIO0_1/ACMP_I2/CLKIN, 10 PIO0_9/XTALOUT, 11 PIO0_8/XTALIN, 12 VDD, 13 VSS, 14 PIO0_7, 15 PIO0_6/VDDCMP, 16 PIO0_0/ACMP_I1


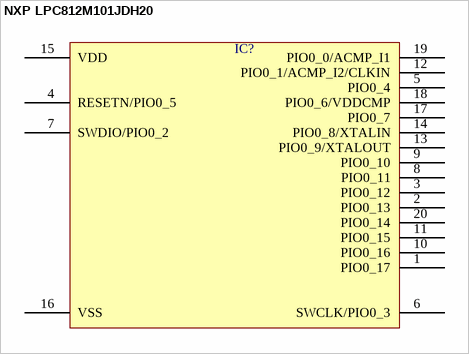
[diagram p410: symbol NXP LPC812M101JDH20]

## NXP LPC812M101JDH20
designator IC?  (value not drawn)
pins: 1 PIO0_17, 2 PIO0_13, 3 PIO0_12, 4 RESETN/PIO0_5, 5 PIO0_4, 6 SWCLK/PIO0_3, 7 SWDIO/PIO0_2, 8 PIO0_11, 9 PIO0_10, 10 PIO0_16, 11 PIO0_15, 12 PIO0_1/ACMP_I2/CLKIN, 13 PIO0_9/XTALOUT, 14 PIO0_8/XTALIN, 15 VDD, 16 VSS, 17 PIO0_7, 18 PIO0_6/VDDCMP, 19 PIO0_0/ACMP_I1, 20 PIO0_14
